# Altium footprint library BGA_ic.PcbLib: 1 footprints
Each footprint in its own frame and in the unit in brackets; x right, y up, seen from the top. Pads: shape width x height; smd on the part's side, far side on the other; paste and mask are expansions set on the pad; w line width, h text height; cw(c..) or ccw(c..) is an arc to the next point about the centre after c.
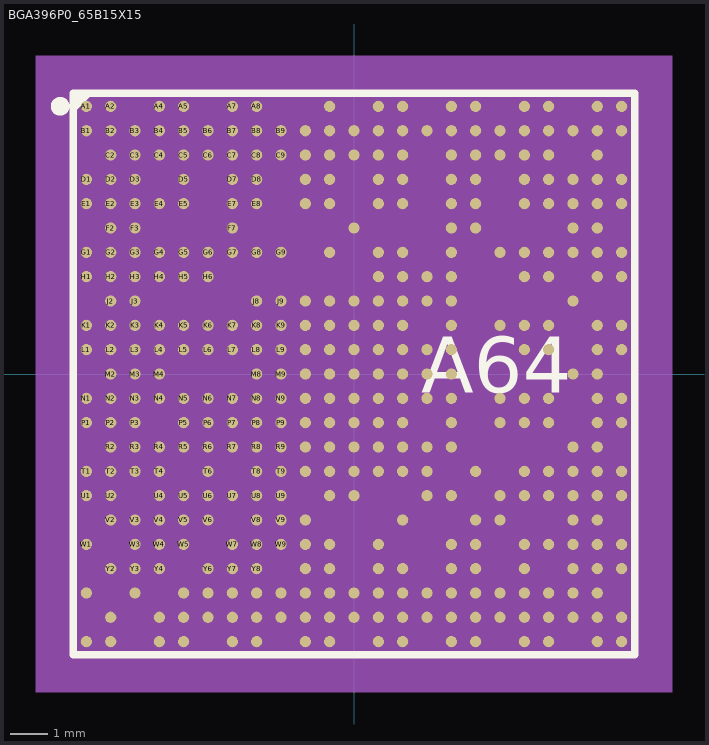
[diagram p0: the footprint, top view; thin cyan lines are the x and y axes]

## BGA396P0_65B15X15 [mm] "BGA396P0_65B15X15"
pads (396):
  round 0.3 smd: A1(-7.15,7.15) A2(-6.5,7.15) A4(-5.2,7.15) A5(-4.55,7.15) A7(-3.25,7.15) A8(-2.6,7.15) A11(-0.65,7.15) A13(0.65,7.15) A14(1.3,7.15) A16(2.6,7.15) A17(3.25,7.15) A19(4.55,7.15) A20(5.2,7.15) A22(6.5,7.15) A23(7.15,7.15) AA1(-7.15,-5.85) AA3(-5.85,-5.85) AA5(-4.55,-5.85) AA6(-3.9,-5.85) AA7(-3.25,-5.85) AA8(-2.6,-5.85) AA9(-1.95,-5.85) AA10(-1.3,-5.85) AA11(-0.65,-5.85) AA12(0,-5.85) AA13(0.65,-5.85) AA14(1.3,-5.85) AA15(1.95,-5.85) AA16(2.6,-5.85) AA17(3.25,-5.85) AA18(3.9,-5.85) AA19(4.55,-5.85) AA20(5.2,-5.85) AA21(5.85,-5.85) AA22(6.5,-5.85) AB2(-6.5,-6.5) AB4(-5.2,-6.5) AB5(-4.55,-6.5) AB6(-3.9,-6.5) AB7(-3.25,-6.5) AB8(-2.6,-6.5) AB9(-1.95,-6.5) AB10(-1.3,-6.5) AB11(-0.65,-6.5) AB12(0,-6.5) AB13(0.65,-6.5) AB14(1.3,-6.5) AB15(1.95,-6.5) AB16(2.6,-6.5) AB17(3.25,-6.5) AB18(3.9,-6.5) AB19(4.55,-6.5) AB20(5.2,-6.5) AB21(5.85,-6.5) AB22(6.5,-6.5) AB23(7.15,-6.5) AC1(-7.15,-7.15) AC2(-6.5,-7.15) AC4(-5.2,-7.15) AC5(-4.55,-7.15) AC7(-3.25,-7.15) AC8(-2.6,-7.15) AC10(-1.3,-7.15) AC11(-0.65,-7.15) AC13(0.65,-7.15) AC14(1.3,-7.15) AC16(2.6,-7.15) AC17(3.25,-7.15) AC19(4.55,-7.15) AC20(5.2,-7.15) AC22(6.5,-7.15) AC23(7.15,-7.15) B1(-7.15,6.5) B2(-6.5,6.5) B3(-5.85,6.5) B4(-5.2,6.5) B5(-4.55,6.5) B6(-3.9,6.5) B7(-3.25,6.5) B8(-2.6,6.5) B9(-1.95,6.5) B10(-1.3,6.5) B11(-0.65,6.5) B12(0,6.5) B13(0.65,6.5) B14(1.3,6.5) B15(1.95,6.5) B16(2.6,6.5) B17(3.25,6.5) B18(3.9,6.5) B19(4.55,6.5) B20(5.2,6.5) B21(5.85,6.5) B22(6.5,6.5) B23(7.15,6.5) C2(-6.5,5.85) C3(-5.85,5.85) C4(-5.2,5.85) C5(-4.55,5.85) C6(-3.9,5.85) C7(-3.25,5.85) C8(-2.6,5.85) C9(-1.95,5.85) C10(-1.3,5.85) C11(-0.65,5.85) C12(0,5.85) C13(0.65,5.85) C14(1.3,5.85) C16(2.6,5.85) C17(3.25,5.85) C18(3.9,5.85) C19(4.55,5.85) C20(5.2,5.85) C22(6.5,5.85) D1(-7.15,5.2) D2(-6.5,5.2) D3(-5.85,5.2) D5(-4.55,5.2) D7(-3.25,5.2) D8(-2.6,5.2) D10(-1.3,5.2) D11(-0.65,5.2) D13(0.65,5.2) D14(1.3,5.2) D16(2.6,5.2) D17(3.25,5.2) D19(4.55,5.2) D20(5.2,5.2) D21(5.85,5.2) D22(6.5,5.2) D23(7.15,5.2) E1(-7.15,4.55) E2(-6.5,4.55) E3(-5.85,4.55) E4(-5.2,4.55) E5(-4.55,4.55) E7(-3.25,4.55) E8(-2.6,4.55) E10(-1.3,4.55) E11(-0.65,4.55) E13(0.65,4.55) E14(1.3,4.55) E16(2.6,4.55) E17(3.25,4.55) E19(4.55,4.55) E20(5.2,4.55) E21(5.85,4.55) E22(6.5,4.55) E23(7.15,4.55) F2(-6.5,3.9) F3(-5.85,3.9) F7(-3.25,3.9) F12(0,3.9) F16(2.6,3.9) F17(3.25,3.9) F21(5.85,3.9) F22(6.5,3.9) G1(-7.15,3.25) G2(-6.5,3.25) G3(-5.85,3.25) G4(-5.2,3.25) G5(-4.55,3.25) G6(-3.9,3.25) G7(-3.25,3.25) G8(-2.6,3.25) G9(-1.95,3.25) G11(-0.65,3.25) G13(0.65,3.25) G14(1.3,3.25) G16(2.6,3.25) G18(3.9,3.25) G19(4.55,3.25) G20(5.2,3.25) G21(5.85,3.25) G22(6.5,3.25) G23(7.15,3.25) H1(-7.15,2.6) H2(-6.5,2.6) H3(-5.85,2.6) H4(-5.2,2.6) H5(-4.55,2.6) H6(-3.9,2.6) H13(0.65,2.6) H14(1.3,2.6) H15(1.95,2.6) H16(2.6,2.6) H19(4.55,2.6) H20(5.2,2.6) H22(6.5,2.6) H23(7.15,2.6) J2(-6.5,1.95) J3(-5.85,1.95) J8(-2.6,1.95) J9(-1.95,1.95) J10(-1.3,1.95) J11(-0.65,1.95) J12(0,1.95) J13(0.65,1.95) J14(1.3,1.95) J15(1.95,1.95) J16(2.6,1.95) J21(5.85,1.95) K1(-7.15,1.3) K2(-6.5,1.3) K3(-5.85,1.3) K4(-5.2,1.3) K5(-4.55,1.3) K6(-3.9,1.3) K7(-3.25,1.3) K8(-2.6,1.3) K9(-1.95,1.3) K10(-1.3,1.3) K11(-0.65,1.3) K12(0,1.3) K13(0.65,1.3) K14(1.3,1.3) K16(2.6,1.3) K18(3.9,1.3) K19(4.55,1.3) K20(5.2,1.3) K22(6.5,1.3) K23(7.15,1.3) L1(-7.15,0.65) L2(-6.5,0.65) L3(-5.85,0.65) L4(-5.2,0.65) L5(-4.55,0.65) L6(-3.9,0.65) L7(-3.25,0.65) L8(-2.6,0.65) L9(-1.95,0.65) L10(-1.3,0.65) L11(-0.65,0.65) L12(0,0.65) L13(0.65,0.65) L14(1.3,0.65) L15(1.95,0.65) L16(2.6,0.65) L19(4.55,0.65) L20(5.2,0.65) L22(6.5,0.65) L23(7.15,0.65) M2(-6.5,0) M3(-5.85,0) M4(-5.2,0) M8(-2.6,0) M9(-1.95,0) M10(-1.3,0) M11(-0.65,0) M12(0,0) M13(0.65,0) M14(1.3,0) M15(1.95,0) M16(2.6,0) M21(5.85,0) M22(6.5,0) N1(-7.15,-0.65) N2(-6.5,-0.65) N3(-5.85,-0.65) N4(-5.2,-0.65) N5(-4.55,-0.65) N6(-3.9,-0.65) N7(-3.25,-0.65) N8(-2.6,-0.65) N9(-1.95,-0.65) N10(-1.3,-0.65) N11(-0.65,-0.65) N12(0,-0.65) N13(0.65,-0.65) N14(1.3,-0.65) N15(1.95,-0.65) N16(2.6,-0.65) N18(3.9,-0.65) N19(4.55,-0.65) N20(5.2,-0.65) N22(6.5,-0.65) N23(7.15,-0.65) P1(-7.15,-1.3) P2(-6.5,-1.3) P3(-5.85,-1.3) P5(-4.55,-1.3) P6(-3.9,-1.3) P7(-3.25,-1.3) P8(-2.6,-1.3) P9(-1.95,-1.3) P10(-1.3,-1.3) P11(-0.65,-1.3) P12(0,-1.3) P13(0.65,-1.3) P14(1.3,-1.3) P16(2.6,-1.3) P18(3.9,-1.3) P19(4.55,-1.3) P20(5.2,-1.3) P22(6.5,-1.3) P23(7.15,-1.3) R2(-6.5,-1.95) R3(-5.85,-1.95) R4(-5.2,-1.95) R5(-4.55,-1.95) R6(-3.9,-1.95) R7(-3.25,-1.95) R8(-2.6,-1.95) R9(-1.95,-1.95) R10(-1.3,-1.95) R11(-0.65,-1.95) R12(0,-1.95) R13(0.65,-1.95) R14(1.3,-1.95) R15(1.95,-1.95) R16(2.6,-1.95) R21(5.85,-1.95) R22(6.5,-1.95) T1(-7.15,-2.6) T2(-6.5,-2.6) T3(-5.85,-2.6) T4(-5.2,-2.6) T6(-3.9,-2.6) T8(-2.6,-2.6) T9(-1.95,-2.6) T10(-1.3,-2.6) T11(-0.65,-2.6) T12(0,-2.6) T13(0.65,-2.6) T14(1.3,-2.6) T15(1.95,-2.6) T17(3.25,-2.6) T19(4.55,-2.6) T20(5.2,-2.6) T21(5.85,-2.6) T22(6.5,-2.6) T23(7.15,-2.6) U1(-7.15,-3.25) U2(-6.5,-3.25) U4(-5.2,-3.25) U5(-4.55,-3.25) U6(-3.9,-3.25) U7(-3.25,-3.25) U8(-2.6,-3.25) U9(-1.95,-3.25) U11(-0.65,-3.25) U12(0,-3.25) U15(1.95,-3.25) U16(2.6,-3.25) U18(3.9,-3.25) U19(4.55,-3.25) U20(5.2,-3.25) U21(5.85,-3.25) U22(6.5,-3.25) U23(7.15,-3.25) V2(-6.5,-3.9) V3(-5.85,-3.9) V4(-5.2,-3.9) V5(-4.55,-3.9) V6(-3.9,-3.9) V8(-2.6,-3.9) V9(-1.95,-3.9) V10(-1.3,-3.9) V14(1.3,-3.9) V17(3.25,-3.9) V18(3.9,-3.9) V21(5.85,-3.9) V22(6.5,-3.9) W1(-7.15,-4.55) W3(-5.85,-4.55) W4(-5.2,-4.55) W5(-4.55,-4.55) W7(-3.25,-4.55) W8(-2.6,-4.55) W9(-1.95,-4.55) W10(-1.3,-4.55) W11(-0.65,-4.55) W13(0.65,-4.55) W16(2.6,-4.55) W17(3.25,-4.55) W19(4.55,-4.55) W20(5.2,-4.55) W21(5.85,-4.55) W22(6.5,-4.55) W23(7.15,-4.55) Y2(-6.5,-5.2) Y3(-5.85,-5.2) Y4(-5.2,-5.2) Y6(-3.9,-5.2) Y7(-3.25,-5.2) Y8(-2.6,-5.2) Y10(-1.3,-5.2) Y11(-0.65,-5.2) Y13(0.65,-5.2) Y14(1.3,-5.2) Y16(2.6,-5.2) Y17(3.25,-5.2) Y19(4.55,-5.2) Y21(5.85,-5.2) Y22(6.5,-5.2) Y23(7.15,-5.2)
Top Overlay:
  circle w0.25: c-7.85,7.15 r0.125
  lines w0.2: -7.5,7.1 -7.1,7.5 ; -7.5,7.3 -7.3,7.5 ; -7.5,-7.5 -7.5,7.5 7.5,7.5 7.5,-7.5 -7.5,-7.5
  text ".Designator" at 1.2,-0.5 h1.5
  text "A64" at 1.8,-0.5 h1.5
Mechanical 10:
  text "W7" at -2.93,-4.55 h0.4
  text "AA6" at -3.42,-5.85 h0.4
  text "W8" at -2.28,-4.55 h0.4
  text "Y6" at -3.58,-5.2 h0.4
  text "AA20" at 5.84,-5.85 h0.4
  text "AA17" at 3.89,-5.85 h0.4
  text "W16" at 3.08,-4.55 h0.4
  text "Y16" at 3.08,-5.2 h0.4
  text "AC16" at 3.24,-7.15 h0.4
  text "AB16" at 3.24,-6.5 h0.4
  text "AB15" at 2.59,-6.5 h0.4
  text "AB14" at 1.94,-6.5 h0.4
  text "AC14" at 1.94,-7.15 h0.4
  text "AC13" at 1.29,-7.15 h0.4
  text "AB13" at 1.29,-6.5 h0.4
  text "AB12" at 0.64,-6.5 h0.4
  text "W19" at 5.03,-4.55 h0.4
  text "AB11" at -0.01,-6.5 h0.4
  text "AC11" at -0.01,-7.15 h0.4
  text "AA14" at 1.94,-5.85 h0.4
  text "V18" at 4.38,-3.9 h0.4
  text "AA15" at 2.59,-5.85 h0.4
  text "Y11" at -0.17,-5.2 h0.4
  text "AA16" at 3.24,-5.85 h0.4
  text "V17" at 3.73,-3.9 h0.4
  text "AA13" at 1.29,-5.85 h0.4
  text "W22" at 6.98,-4.55 h0.4
  text "Y8" at -2.28,-5.2 h0.4
  text "AA5" at -4.07,-5.85 h0.4
  text "D21" at 6.33,5.2 h0.4
  text "C20" at 5.68,5.85 h0.4
  text "D22" at 6.98,5.2 h0.4
  text "B21" at 6.33,6.5 h0.4
  text "D20" at 5.68,5.2 h0.4
  text "A13" at 1.13,7.15 h0.4
  text "B13" at 1.13,6.5 h0.4
  text "G19" at 5.03,3.25 h0.4
  text "H19" at 5.03,2.6 h0.4
  text "B14" at 1.78,6.5 h0.4
  text "A14" at 1.78,7.15 h0.4
  text "C14" at 1.78,5.85 h0.4
  text "D14" at 1.78,5.2 h0.4
  text "F16" at 3.08,3.9 h0.4
  text "E16" at 3.08,4.55 h0.4
  text "C22" at 6.98,5.85 h0.4
  text "B23" at 7.63,6.5 h0.4
  text "AC10" at -0.66,-7.15 h0.4
  text "B22" at 6.98,6.5 h0.4
  text "A22" at 6.98,7.15 h0.4
  text "B10" at -0.82,6.5 h0.4
  text "AB10" at -0.66,-6.5 h0.4
  text "W13" at 1.13,-4.55 h0.4
  text "AC8" at -2.12,-7.15 h0.4
  text "W9" at -1.63,-4.55 h0.4
  text "AB9" at -1.47,-6.5 h0.4
  text "AB6" at -3.42,-6.5 h0.4
  text "A23" at 7.63,7.15 h0.4
  text "D7" at -2.93,5.2 h0.4
  text "J14" at 1.78,1.95 h0.4
  text "L15" at 2.43,0.65 h0.4
  text "M15" at 2.43,0 h0.4
  text "J9" at -1.63,1.95 h0.4
  text "M3" at -5.53,0 h0.4
  text "U7" at -2.93,-3.25 h0.4
  text "V8" at -2.28,-3.9 h0.4
  text "U8" at -2.28,-3.25 h0.4
  text "U9" at -1.63,-3.25 h0.4
  text "T8" at -2.28,-2.6 h0.4
  text "T9" at -1.63,-2.6 h0.4
  text "R9" at -1.63,-1.95 h0.4
  text "R8" at -2.28,-1.95 h0.4
  text "R7" at -2.93,-1.95 h0.4
  text "U5" at -4.23,-3.25 h0.4
  text "C7" at -2.93,5.85 h0.4
  text "L5" at -4.23,0.65 h0.4
  text "L4" at -4.88,0.65 h0.4
  text "N4" at -4.88,-0.65 h0.4
  text "P7" at -2.93,-1.3 h0.4
  text "A1" at -6.83,7.15 h0.4
  text "AC23" at 7.79,-7.15 h0.4
  text "R6" at -3.58,-1.95 h0.4
  text "R5" at -4.23,-1.95 h0.4
  text "H4" at -4.88,2.6 h0.4
  text "C3" at -5.53,5.85 h0.4
  text "V14" at 1.78,-3.9 h0.4
  text "U12" at 0.48,-3.25 h0.4
  text "T13" at 1.13,-2.6 h0.4
  text "P13" at 1.13,-1.3 h0.4
  text "P12" at 0.48,-1.3 h0.4
  text "P9" at -1.63,-1.3 h0.4
  text "P8" at -2.28,-1.3 h0.4
  text "N13" at 1.13,-0.65 h0.4
  text "N12" at 0.48,-0.65 h0.4
  text "N9" at -1.63,-0.65 h0.4
  text "M12" at 0.48,0 h0.4
  text "M9" at -1.63,0 h0.4
  text "M8" at -2.28,0 h0.4
  text "L12" at 0.48,0.65 h0.4
  text "L9" at -1.63,0.65 h0.4
  text "K13" at 1.13,1.3 h0.4
  text "K12" at 0.48,1.3 h0.4
  text "K9" at -1.63,1.3 h0.4
  text "K8" at -2.28,1.3 h0.4
  text "P10" at -0.82,-1.3 h0.4
  text "N10" at -0.82,-0.65 h0.4
  text "M10" at -0.82,0 h0.4
  text "L10" at -0.82,0.65 h0.4
  text "K10" at -0.82,1.3 h0.4
  text "J10" at -0.82,1.95 h0.4
  text "P11" at -0.17,-1.3 h0.4
  text "N11" at -0.17,-0.65 h0.4
  text "M11" at -0.17,0 h0.4
  text "L11" at -0.17,0.65 h0.4
  text "K11" at -0.17,1.3 h0.4
  text "J11" at -0.17,1.95 h0.4
  text "R10" at -0.82,-1.95 h0.4
  text "T11" at -0.17,-2.6 h0.4
  text "T10" at -0.82,-2.6 h0.4
  text "U11" at -0.17,-3.25 h0.4
  text "R11" at -0.17,-1.95 h0.4
  text "T12" at 0.48,-2.6 h0.4
  text "R12" at 0.48,-1.95 h0.4
  text "U2" at -6.18,-3.25 h0.4
  text "R15" at 2.43,-1.95 h0.4
  text "N15" at 2.43,-0.65 h0.4
  text "H13" at 1.13,2.6 h0.4
  text "J15" at 2.43,1.95 h0.4
  text "G6" at -3.58,3.25 h0.4
  text "AA8" at -2.12,-5.85 h0.4
  text "Y13" at 1.13,-5.2 h0.4
  text "Y14" at 1.78,-5.2 h0.4
  text "AC7" at -2.77,-7.15 h0.4
  text "Y23" at 7.63,-5.2 h0.4
  text "AC20" at 5.84,-7.15 h0.4
  text "AB21" at 6.49,-6.5 h0.4
  text "A17" at 3.73,7.15 h0.4
  text "B17" at 3.73,6.5 h0.4
  text "G8" at -2.28,3.25 h0.4
  text "K6" at -3.58,1.3 h0.4
  text "K7" at -2.93,1.3 h0.4
  text "L7" at -2.93,0.65 h0.4
  text "L6" at -3.58,0.65 h0.4
  text "L8" at -2.28,0.65 h0.4
  text "J8" at -2.28,1.95 h0.4
  text "N7" at -2.93,-0.65 h0.4
  text "N8" at -2.28,-0.65 h0.4
  text "G7" at -2.93,3.25 h0.4
  text "G9" at -1.63,3.25 h0.4
  text "H16" at 3.08,2.6 h0.4
  text "B16" at 3.08,6.5 h0.4
  text "B15" at 2.43,6.5 h0.4
  text "U20" at 5.68,-3.25 h0.4
  text "V22" at 6.98,-3.9 h0.4
  text "Y21" at 6.33,-5.2 h0.4
  text "W23" at 7.63,-4.55 h0.4
  text "A19" at 5.03,7.15 h0.4
  text "E19" at 5.03,4.55 h0.4
  text "U19" at 5.03,-3.25 h0.4
  text "A20" at 5.68,7.15 h0.4
  text "B20" at 5.68,6.5 h0.4
  text "AB18" at 4.54,-6.5 h0.4
  text "AB19" at 5.19,-6.5 h0.4
  text "AC19" at 5.19,-7.15 h0.4
  text "U22" at 6.98,-3.25 h0.4
  text "D19" at 5.03,5.2 h0.4
  text "C19" at 5.03,5.85 h0.4
  text "J21" at 6.33,1.95 h0.4
  text "W11" at -0.17,-4.55 h0.4
  text "AA10" at -0.66,-5.85 h0.4
  text "AB8" at -2.12,-6.5 h0.4
  text "C12" at 0.48,5.85 h0.4
  text "AC4" at -4.72,-7.15 h0.4
  text "AA9" at -1.47,-5.85 h0.4
  text "B19" at 5.03,6.5 h0.4
  text "L3" at -5.53,0.65 h0.4
  text "C10" at -0.82,5.85 h0.4
  text "H2" at -6.18,2.6 h0.4
  text "C4" at -4.88,5.85 h0.4
  text "C18" at 4.38,5.85 h0.4
  text "T22" at 6.98,-2.6 h0.4
  text "E5" at -4.23,4.55 h0.4
  text "P3" at -5.53,-1.3 h0.4
  text "P23" at 7.63,-1.3 h0.4
  text "T1" at -6.83,-2.6 h0.4
  text "F21" at 6.33,3.9 h0.4
  text "D17" at 3.73,5.2 h0.4
  text "D13" at 1.13,5.2 h0.4
  text "P22" at 6.98,-1.3 h0.4
  text "B2" at -6.18,6.5 h0.4
  text "R22" at 6.98,-1.95 h0.4
  text "G4" at -4.88,3.25 h0.4
  text "E14" at 1.78,4.55 h0.4
  text "E3" at -5.53,4.55 h0.4
  text "T23" at 7.63,-2.6 h0.4
  text "T4" at -4.88,-2.6 h0.4
  text "N23" at 7.63,-0.65 h0.4
  text "N5" at -4.23,-0.65 h0.4
  text "T3" at -5.53,-2.6 h0.4
  text "Y10" at -0.82,-5.2 h0.4
  text "F2" at -6.18,3.9 h0.4
  text "R3" at -5.53,-1.95 h0.4
  text "H1" at -6.83,2.6 h0.4
  text "H5" at -4.23,2.6 h0.4
  text "N6" at -3.58,-0.65 h0.4
  text "E17" at 3.73,4.55 h0.4
  text "C13" at 1.13,5.85 h0.4
  text "N1" at -6.83,-0.65 h0.4
  text "E1" at -6.83,4.55 h0.4
  text "U4" at -4.88,-3.25 h0.4
  text "C2" at -6.18,5.85 h0.4
  text "E4" at -4.88,4.55 h0.4
  text "P5" at -4.23,-1.3 h0.4
  text "A4" at -4.88,7.15 h0.4
  text "T21" at 6.33,-2.6 h0.4
  text "A2" at -6.18,7.15 h0.4
  text "F7" at -2.93,3.9 h0.4
  text "K18" at 4.38,1.3 h0.4
  text "G1" at -6.83,3.25 h0.4
  text "L2" at -6.18,0.65 h0.4
  text "P20" at 5.68,-1.3 h0.4
  text "F3" at -5.53,3.9 h0.4
  text "P19" at 5.03,-1.3 h0.4
  text "A8" at -2.28,7.15 h0.4
  text "N19" at 5.03,-0.65 h0.4
  text "M16" at 3.08,0 h0.4
  text "T20" at 5.68,-2.6 h0.4
  text "J2" at -6.18,1.95 h0.4
  text "T14" at 1.78,-2.6 h0.4
  text "U16" at 3.08,-3.25 h0.4
  text "U15" at 2.43,-3.25 h0.4
  text "N18" at 4.38,-0.65 h0.4
  text "B9" at -1.63,6.5 h0.4
  text "N2" at -6.18,-0.65 h0.4
  text "K19" at 5.03,1.3 h0.4
  text "E7" at -2.93,4.55 h0.4
  text "P6" at -3.58,-1.3 h0.4
  text "K4" at -4.88,1.3 h0.4
  text "M21" at 6.33,0 h0.4
  text "H3" at -5.53,2.6 h0.4
  text "H15" at 2.43,2.6 h0.4
  text "B3" at -5.53,6.5 h0.4
  text "B8" at -2.28,6.5 h0.4
  text "C8" at -2.28,5.85 h0.4
  text "L1" at -6.83,0.65 h0.4
  text "N3" at -5.53,-0.65 h0.4
  text "D3" at -5.53,5.2 h0.4
  text "K1" at -6.83,1.3 h0.4
  text "N20" at 5.68,-0.65 h0.4
  text "D5" at -4.23,5.2 h0.4
  text "M4" at -4.88,0 h0.4
  text "J16" at 3.08,1.95 h0.4
  text "T2" at -6.18,-2.6 h0.4
  text "R2" at -6.18,-1.95 h0.4
  text "N16" at 3.08,-0.65 h0.4
  text "G14" at 1.78,3.25 h0.4
  text "B1" at -6.83,6.5 h0.4
  text "C6" at -3.58,5.85 h0.4
  text "J3" at -5.53,1.95 h0.4
  text "C9" at -1.63,5.85 h0.4
  text "K16" at 3.08,1.3 h0.4
  text "D8" at -2.28,5.2 h0.4
  text "E8" at -2.28,4.55 h0.4
  text "K5" at -4.23,1.3 h0.4
  text "G5" at -4.23,3.25 h0.4
  text "A7" at -2.93,7.15 h0.4
  text "C17" at 3.73,5.85 h0.4
  text "H6" at -3.58,2.6 h0.4
  text "C5" at -4.23,5.85 h0.4
  text "R4" at -4.88,-1.95 h0.4
  text "A5" at -4.23,7.15 h0.4
  text "E2" at -6.18,4.55 h0.4
  text "M2" at -6.18,0 h0.4
  text "B4" at -4.88,6.5 h0.4
  text "G18" at 4.38,3.25 h0.4
  text "D10" at -0.82,5.2 h0.4
  text "N22" at 6.98,-0.65 h0.4
  text "M22" at 6.98,0 h0.4
  text "L23" at 7.63,0.65 h0.4
  text "L22" at 6.98,0.65 h0.4
  text "AB5" at -4.07,-6.5 h0.4
  text "G23" at 7.63,3.25 h0.4
  text "H23" at 7.63,2.6 h0.4
  text "F22" at 6.98,3.9 h0.4
  text "K22" at 6.98,1.3 h0.4
  text "G22" at 6.98,3.25 h0.4
  text "K23" at 7.63,1.3 h0.4
  text "D23" at 7.63,5.2 h0.4
  text "E23" at 7.63,4.55 h0.4
  text "E22" at 6.98,4.55 h0.4
  text "E21" at 6.33,4.55 h0.4
  text "H22" at 6.98,2.6 h0.4
  text "E20" at 5.68,4.55 h0.4
  text "G21" at 6.33,3.25 h0.4
  text "L19" at 5.03,0.65 h0.4
  text "T19" at 5.03,-2.6 h0.4
  text "H20" at 5.68,2.6 h0.4
  text "P18" at 4.38,-1.3 h0.4
  text "R21" at 6.33,-1.95 h0.4
  text "L20" at 5.68,0.65 h0.4
  text "K20" at 5.68,1.3 h0.4
  text "AC5" at -4.07,-7.15 h0.4
  text "T6" at -3.58,-2.6 h0.4
  text "A11" at -0.17,7.15 h0.4
  text "B11" at -0.17,6.5 h0.4
  text "C11" at -0.17,5.85 h0.4
  text "D2" at -6.18,5.2 h0.4
  text "E13" at 1.13,4.55 h0.4
  text "K2" at -6.18,1.3 h0.4
  text "D1" at -6.83,5.2 h0.4
  text "G16" at 3.08,3.25 h0.4
  text "G3" at -5.53,3.25 h0.4
  text "G2" at -6.18,3.25 h0.4
  text "P2" at -6.18,-1.3 h0.4
  text "K3" at -5.53,1.3 h0.4
  text "P16" at 3.08,-1.3 h0.4
  text "F17" at 3.73,3.9 h0.4
  text "B7" at -2.93,6.5 h0.4
  text "B5" at -4.23,6.5 h0.4
  text "B6" at -3.58,6.5 h0.4
  text "AB4" at -4.72,-6.5 h0.4
  text "P1" at -6.83,-1.3 h0.4
  text "A16" at 3.08,7.15 h0.4
  text "AA12" at 0.64,-5.85 h0.4
  text "AA11" at -0.01,-5.85 h0.4
  text "W17" at 3.73,-4.55 h0.4
  text "B18" at 4.38,6.5 h0.4
  text "AA19" at 5.19,-5.85 h0.4
  text "W10" at -0.82,-4.55 h0.4
  text "AA7" at -2.77,-5.85 h0.4
  text "V9" at -1.63,-3.9 h0.4
  text "T17" at 3.73,-2.6 h0.4
  text "AB7" at -2.77,-6.5 h0.4
  text "R16" at 3.08,-1.95 h0.4
  text "AB22" at 7.14,-6.5 h0.4
  text "W20" at 5.68,-4.55 h0.4
  text "W21" at 6.33,-4.55 h0.4
  text "D16" at 3.08,5.2 h0.4
  text "AC2" at -6.02,-7.15 h0.4
  text "AC1" at -6.67,-7.15 h0.4
  text "V5" at -4.23,-3.9 h0.4
  text "V3" at -5.53,-3.9 h0.4
  text "Y2" at -6.18,-5.2 h0.4
  text "Y3" at -5.53,-5.2 h0.4
  text "AB2" at -6.02,-6.5 h0.4
  text "Y4" at -4.88,-5.2 h0.4
  text "W5" at -4.23,-4.55 h0.4
  text "U6" at -3.58,-3.25 h0.4
  text "V6" at -3.58,-3.9 h0.4
  text "V4" at -4.88,-3.9 h0.4
  text "W3" at -5.53,-4.55 h0.4
  text "V2" at -6.18,-3.9 h0.4
  text "W1" at -6.83,-4.55 h0.4
  text "AA1" at -6.67,-5.85 h0.4
  text "W4" at -4.88,-4.55 h0.4
  text "AA3" at -5.37,-5.85 h0.4
  text "C16" at 3.08,5.85 h0.4
  text "Y19" at 5.03,-5.2 h0.4
  text "U18" at 4.38,-3.25 h0.4
  text "Y17" at 3.73,-5.2 h0.4
  text "AC22" at 7.14,-7.15 h0.4
  text "AA18" at 4.54,-5.85 h0.4
  text "AA22" at 7.14,-5.85 h0.4
  text "AA21" at 6.49,-5.85 h0.4
  text "AB23" at 7.79,-6.5 h0.4
  text "K14" at 1.78,1.3 h0.4
  text "J13" at 1.13,1.95 h0.4
  text "L14" at 1.78,0.65 h0.4
  text "M13" at 1.13,0 h0.4
  text "J12" at 0.48,1.95 h0.4
  text "N14" at 1.78,-0.65 h0.4
  text "R14" at 1.78,-1.95 h0.4
  text "R13" at 1.13,-1.95 h0.4
  text "T15" at 2.43,-2.6 h0.4
  text "M14" at 1.78,0 h0.4
  text "L13" at 1.13,0.65 h0.4
  text "P14" at 1.78,-1.3 h0.4
  text "AB20" at 5.84,-6.5 h0.4
  text "Y22" at 6.98,-5.2 h0.4
  text "U23" at 7.63,-3.25 h0.4
  text "U21" at 6.33,-3.25 h0.4
  text "D11" at -0.17,5.2 h0.4
  text "H14" at 1.78,2.6 h0.4
  text "AB17" at 3.89,-6.5 h0.4
  text "AC17" at 3.89,-7.15 h0.4
  text "L16" at 3.08,0.65 h0.4
  text "Y7" at -2.93,-5.2 h0.4
  text "V10" at -0.82,-3.9 h0.4
  text "E11" at -0.17,4.55 h0.4
  text "E10" at -0.82,4.55 h0.4
  text "B12" at 0.48,6.5 h0.4
  text "U1" at -6.83,-3.25 h0.4
  text "G20" at 5.68,3.25 h0.4
  text "V21" at 6.33,-3.9 h0.4
  text "G11" at -0.17,3.25 h0.4
  text "G13" at 1.13,3.25 h0.4
  text "F12" at 0.48,3.9 h0.4
Mechanical 12:
  lines w0.2: -7.5,7.1 -7.1,7.5 ; -7.5,7.3 -7.3,7.5 ; -7.5,-7.5 -7.5,7.5 7.5,7.5 7.5,-7.5 -7.5,-7.5
Mechanical 13:
  region: -8.5,-8.5 8.5,-8.5 8.5,8.5 -8.5,8.5
Mechanical 15:
  pour cut-out: -7.5,-7.5 7.5,-7.5 7.5,7.5 -7.5,7.5